# Altium footprint library RESISTOR.PcbLib: 26 footprints (part 2 of 2)
Each footprint in its own frame and in the unit in brackets; x right, y up, seen from the top. Pads: shape width x height; smd on the part's side, far side on the other; paste and mask are expansions set on the pad; w line width, h text height; cw(c..) or ccw(c..) is an arc to the next point about the centre after c.
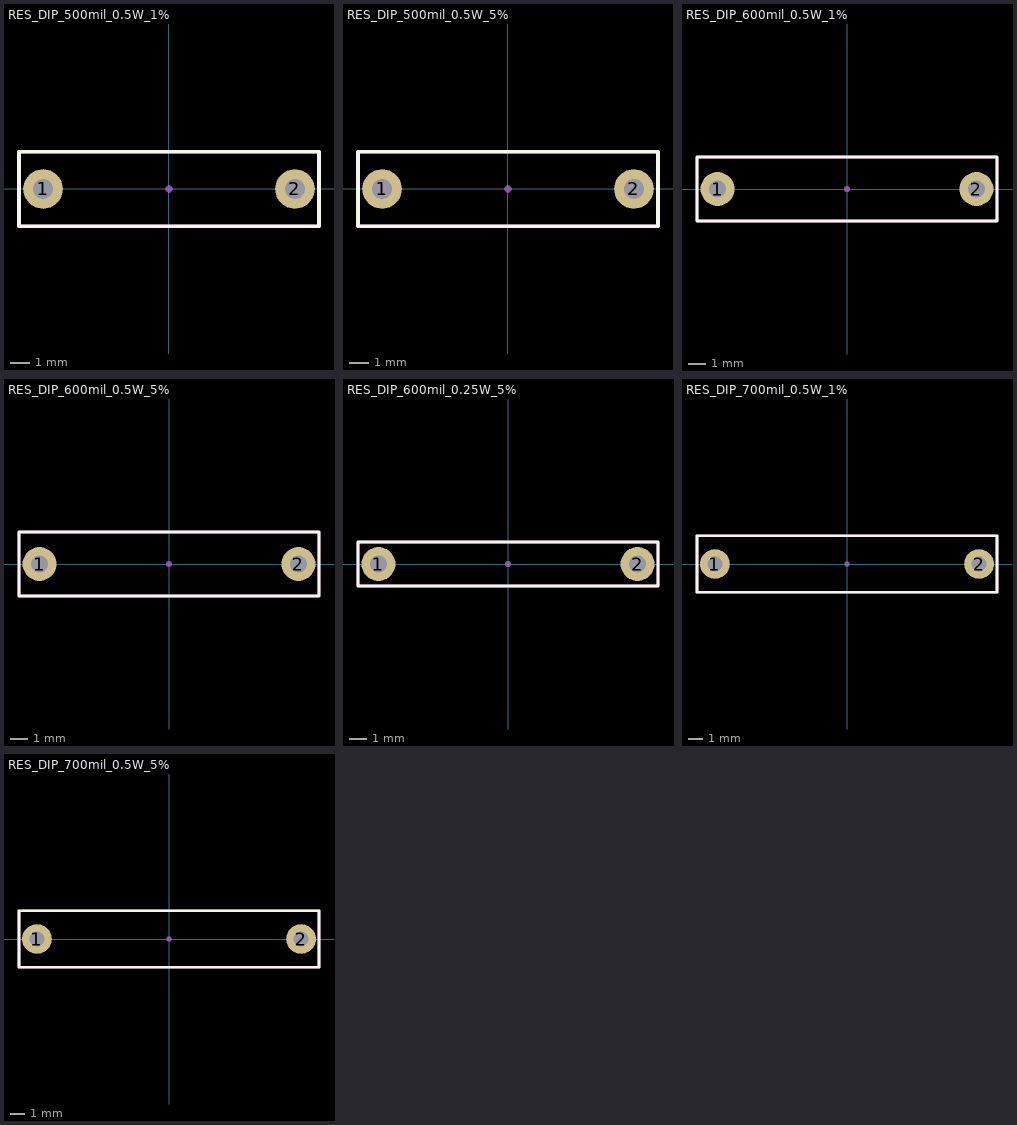
[diagram p1: the footprints below, top view; thin cyan lines are the x and y axes]

## RES_DIP_500mil_0.5W_1% [mm]
pads (2):
  round 2 hole 1: 1(-6.35,0) 2(6.35,0)
Top Overlay:
  lines w0.178: -7.563,-1.89 7.563,-1.89 7.563,1.89 -7.563,1.89 -7.563,-1.89
Top Component Center:
  lines w0.127: -0.127,0 0.127,0 ; 0,-0.127 0,0.127
Top Courtyard:
  lines w0.178: -7.563,-1.89 7.563,-1.89 7.563,1.89 -7.563,1.89 -7.563,-1.89
Top Glue Points:
  circle w0.254: c0,0 r0.051
3D body "RES_AH_0.5W_500mil_0R_1%.STEP": height 3.94, standoff -5.04, extent -6.65,-1.785 6.65,1.785

## RES_DIP_500mil_0.5W_5% [mm]
pads (2):
  round 2 hole 1: 1(-6.35,0) 2(6.35,0)
Top Overlay:
  lines w0.178: -7.563,-1.89 -7.563,1.89 7.563,1.89 7.563,-1.89 -7.563,-1.89
Top Component Center:
  lines w0.127: -0.127,0 0.127,0 ; 0,-0.127 0,0.127
Top Courtyard:
  lines w0.178: -7.563,-1.89 -7.563,1.89 7.563,1.89 7.563,-1.89 -7.563,-1.89
Top Glue Points:
  circle w0.254: c0,0 r0.051
3D body "RES_AH_0.5W_500mil_0R_5%.STEP": height 3.94, standoff -5.04, extent -6.65,-1.785 6.65,1.785

## RES_DIP_500mil_0.25W_1% [mil]

## RES_DIP_500mil_0.25W_5% [mil]

## RES_DIP_600mil_0.5W_1% [mm]
pads (2):
  round 2 hole 1: 1(-7.62,0) 2(7.62,0)
Top Overlay:
  lines w0.178: -8.83,-1.885 8.83,-1.885 8.83,1.885 -8.83,1.885 -8.83,-1.885
Top Component Center:
  lines w0.127: -0.127,0 0.127,0 ; 0,-0.127 0,0.127
Top Courtyard:
  lines w0.178: -8.83,-1.885 8.83,-1.885 8.83,1.885 -8.83,1.885 -8.83,-1.885
Top Glue Points:
  circle w0.254: c0,0 r0.051
3D body "RES_AH_0.5W_600mil_0R_1%.STEP": height 3.94, standoff -5.04, extent -7.92,-1.785 7.92,1.785

## RES_DIP_600mil_0.5W_5% [mm]
pads (2):
  round 2 hole 1: 1(-7.62,0) 2(7.62,0)
Top Overlay:
  lines w0.178: -8.83,-1.885 8.83,-1.885 8.83,1.885 -8.83,1.885 -8.83,-1.885
Top Component Center:
  lines w0.127: -0.127,0 0.127,0 ; 0,-0.127 0,0.127
Top Courtyard:
  lines w0.178: -8.83,-1.885 8.83,-1.885 8.83,1.885 -8.83,1.885 -8.83,-1.885
Top Glue Points:
  circle w0.254: c0,0 r0.051
3D body "RES_AH_0.5W_600mil_0R_5%.STEP": height 3.94, standoff -5.04, extent -7.92,-1.785 7.92,1.785

## RES_DIP_600mil_0.25W_1% [mil]

## RES_DIP_600mil_0.25W_5% [mm]
pads (2):
  round 2 hole 1: 1(-7.62,0) 2(7.62,0)
Top Overlay:
  lines w0.178: -8.826,-1.297 8.826,-1.297 8.826,1.297 -8.826,1.297 -8.826,-1.297
Top Component Center:
  lines w0.127: -0.127,0 0.127,0 ; 0,-0.127 0,0.127
Top Courtyard:
  lines w0.178: -8.826,-1.297 8.826,-1.297 8.826,1.297 -8.826,1.297 -8.826,-1.297
Top Glue Points:
  circle w0.254: c0,0 r0.051
3D body "RES_AH_0.25W_600mil_0R_5%.STEP": height 2.35, standoff -4.34, extent -7.87,-1.2 7.87,1.2

## RES_DIP_700mil_0.5W_1% [mm]
pads (2):
  round 2 hole 1: 1(-8.89,0) 2(8.89,0)
Top Overlay:
  lines w0.178: -10.098,-1.89 10.098,-1.89 10.098,1.89 -10.098,1.89 -10.098,-1.89
Top Component Center:
  lines w0.127: -0.127,0 0.127,0 ; 0,-0.127 0,0.127
Top Courtyard:
  lines w0.178: -10.098,-1.89 10.098,-1.89 10.098,1.89 -10.098,1.89 -10.098,-1.89
Top Glue Points:
  circle w0.254: c0,0 r0.051
3D body "RES_AH_0.5W_700mil_0R_1%.STEP": height 3.94, standoff -5.04, extent -9.19,-1.785 9.19,1.785

## RES_DIP_700mil_0.5W_5% [mm]
pads (2):
  round 2 hole 1: 1(-8.89,0) 2(8.89,0)
Top Overlay:
  lines w0.178: -10.098,-1.89 -10.098,1.89 10.098,1.89 10.098,-1.89 -10.098,-1.89
Top Component Center:
  lines w0.127: -0.127,0 0.127,0 ; 0,-0.127 0,0.127
Top Courtyard:
  lines w0.178: -10.098,-1.89 -10.098,1.89 10.098,1.89 10.098,-1.89 -10.098,-1.89
Top Glue Points:
  circle w0.254: c0,0 r0.051
3D body "RES_AH_0.5W_700mil_0R_5%.STEP": height 3.94, standoff -5.04, extent -9.19,-1.785 9.19,1.785